# Altium schematic symbol library WR-TBL_Rising Cage Clamp.SchLib: 433 symbols (part 6 of 8)
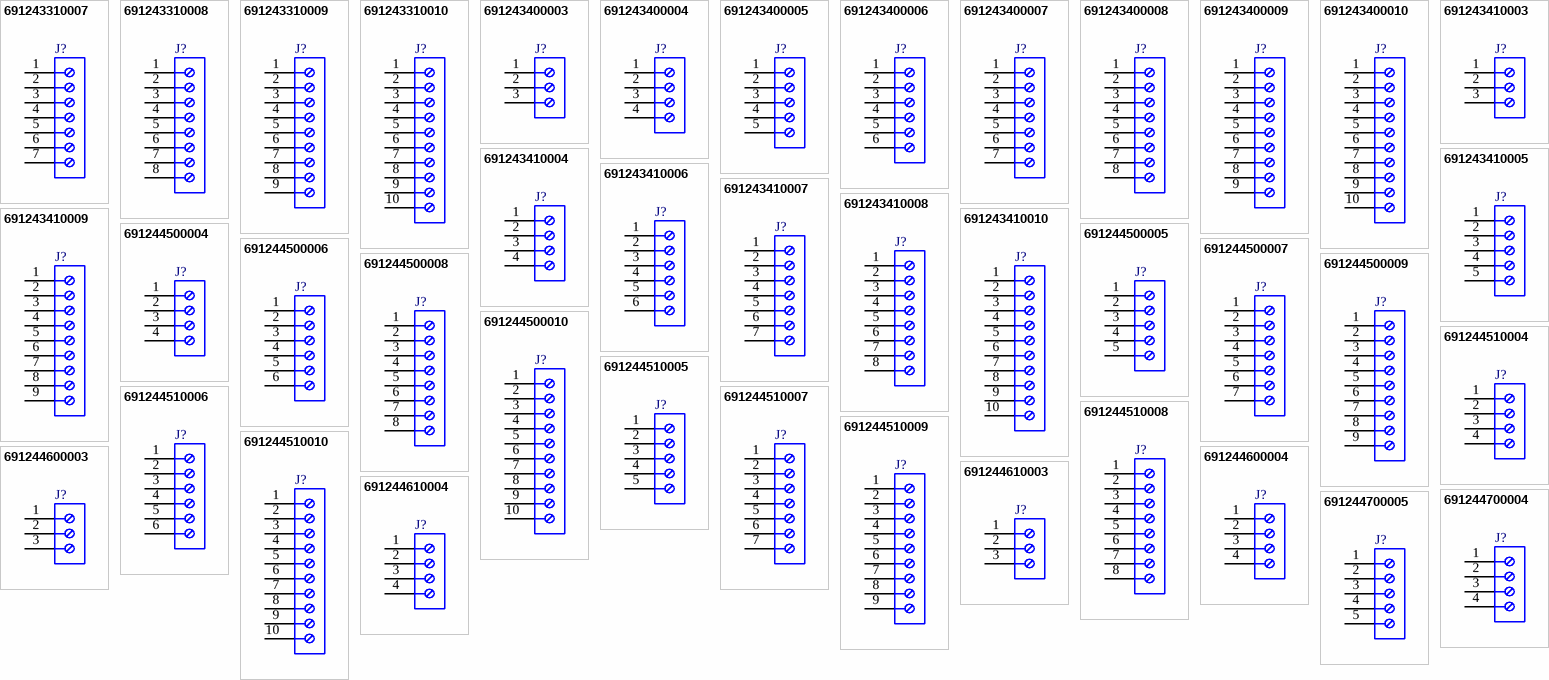
[diagram p15: symbols 691243310007 to 691244700005]

## 691244500010
designator J?  (value not drawn)
WR-TBL Series 2445 Vertical Entry Modular, THT, pitch 5.08mm, 10p; Manufacturer: Wurth Elektronik; Modularity: Yes; Rated Current: 16A; Wire Section: 12 to 30 (AWG) 3.31 to 0.0509 (mm^2); Working Voltage: 300V (AC); Manufacturer Part Number: 691244500010; Product Series: WR-TBL; ComponentLink1Description: Website Link; ComponentLink1URL: https://www.we-online.com; ComponentLink2Description: Datasheet Link; ComponentLink2URL: https://www.we-online.com/components/products/datasheet/691244500010; Mount: Through Hole; Operating Temperature Min: -30degC; Operating Temperature Max: 120degC; Packaging: Box; Application: Rising Cage Clamp; Number of Pins: 10; Number of Rows: 1; Orientation: Vertical; Lead Pitch: 5.08mm
footprint 691244500010
pins: 1, 2, 3, 4, 5, 6, 7, 8, 9, 10

## 691244510004
designator J?  (value not drawn)
WR-TBL Series 2445 Horizontal Entry Modular, THT, pitch 5.08mm, 04p; Manufacturer: Wurth Elektronik; Modularity: No; Rated Current: 16A; Wire Section: 12 to 30 (AWG) 3.31 to 0.0509 (mm^2); Working Voltage: 300V (AC); Manufacturer Part Number: 691244510004; Product Series: WR-TBL; ComponentLink1Description: Website Link; ComponentLink1URL: https://www.we-online.com; ComponentLink2Description: Datasheet Link; ComponentLink2URL: https://www.we-online.com/components/products/datasheet/691244510004; Mount: Through Hole; Operating Temperature Min: -30degC; Operating Temperature Max: 120degC; Packaging: Box; Application: Rising Cage Clamp; Number of Pins: 4; Number of Rows: 1; Orientation: Horizontal; Lead Pitch: 5.08mm
footprint 691244510004
pins: 1, 2, 3, 4

## 691244510005
designator J?  (value not drawn)
WR-TBL Series 2445 Horizontal Entry Modular, THT, pitch 5.08mm, 05p; Manufacturer: Wurth Elektronik; Modularity: No; Rated Current: 16A; Wire Section: 12 to 30 (AWG) 3.31 to 0.0509 (mm^2); Working Voltage: 300V (AC); Manufacturer Part Number: 691244510005; Product Series: WR-TBL; ComponentLink1Description: Website Link; ComponentLink1URL: https://www.we-online.com; ComponentLink2Description: Datasheet Link; ComponentLink2URL: https://www.we-online.com/components/products/datasheet/691244510005; Mount: Through Hole; Operating Temperature Min: -30degC; Operating Temperature Max: 120degC; Packaging: Box; Application: Rising Cage Clamp; Number of Pins: 5; Number of Rows: 1; Orientation: Horizontal; Lead Pitch: 5.08mm
footprint 691244510005
pins: 1, 2, 3, 4, 5

## 691244510006
designator J?  (value not drawn)
WR-TBL Series 2445 Horizontal Entry Modular, THT, pitch 5.08mm, 06p; Manufacturer: Wurth Elektronik; Modularity: No; Rated Current: 16A; Wire Section: 12 to 30 (AWG) 3.31 to 0.0509 (mm^2); Working Voltage: 300V (AC); Manufacturer Part Number: 691244510006; Product Series: WR-TBL; ComponentLink1Description: Website Link; ComponentLink1URL: https://www.we-online.com; ComponentLink2Description: Datasheet Link; ComponentLink2URL: https://www.we-online.com/components/products/datasheet/691244510006; Mount: Through Hole; Operating Temperature Min: -30degC; Operating Temperature Max: 120degC; Packaging: Box; Application: Rising Cage Clamp; Number of Pins: 6; Number of Rows: 1; Orientation: Horizontal; Lead Pitch: 5.08mm
footprint 691244510006
pins: 1, 2, 3, 4, 5, 6

## 691244510007
designator J?  (value not drawn)
WR-TBL Series 2445 Horizontal Entry Modular, THT, pitch 5.08mm, 07p; Manufacturer: Wurth Elektronik; Modularity: No; Rated Current: 16A; Wire Section: 12 to 30 (AWG) 3.31 to 0.0509 (mm^2); Working Voltage: 300V (AC); Manufacturer Part Number: 691244510007; Product Series: WR-TBL; ComponentLink1Description: Website Link; ComponentLink1URL: https://www.we-online.com; ComponentLink2Description: Datasheet Link; ComponentLink2URL: https://www.we-online.com/components/products/datasheet/691244510007; Mount: Through Hole; Operating Temperature Min: -30degC; Operating Temperature Max: 120degC; Packaging: Box; Application: Rising Cage Clamp; Number of Pins: 7; Number of Rows: 1; Orientation: Horizontal; Lead Pitch: 5.08mm
footprint 691244510007
pins: 1, 2, 3, 4, 5, 6, 7

## 691244510008
designator J?  (value not drawn)
WR-TBL Series 2445 Horizontal Entry Modular, THT, pitch 5.08mm, 08p; Manufacturer: Wurth Elektronik; Modularity: No; Rated Current: 16A; Wire Section: 12 to 30 (AWG) 3.31 to 0.0509 (mm^2); Working Voltage: 300V (AC); Manufacturer Part Number: 691244510008; Product Series: WR-TBL; ComponentLink1Description: Website Link; ComponentLink1URL: https://www.we-online.com; ComponentLink2Description: Datasheet Link; ComponentLink2URL: https://www.we-online.com/components/products/datasheet/691244510008; Mount: Through Hole; Operating Temperature Min: -30degC; Operating Temperature Max: 120degC; Packaging: Box; Application: Rising Cage Clamp; Number of Pins: 8; Number of Rows: 1; Orientation: Horizontal; Lead Pitch: 5.08mm
footprint 691244510008
pins: 1, 2, 3, 4, 5, 6, 7, 8

## 691244510009
designator J?  (value not drawn)
WR-TBL Series 2445 Horizontal Entry Modular, THT, pitch 5.08mm, 09p; Manufacturer: Wurth Elektronik; Modularity: No; Rated Current: 16A; Wire Section: 12 to 30 (AWG) 3.31 to 0.0509 (mm^2); Working Voltage: 300V (AC); Manufacturer Part Number: 691244510009; Product Series: WR-TBL; ComponentLink1Description: Website Link; ComponentLink1URL: https://www.we-online.com; ComponentLink2Description: Datasheet Link; ComponentLink2URL: https://www.we-online.com/components/products/datasheet/691244510009; Mount: Through Hole; Operating Temperature Min: -30degC; Operating Temperature Max: 120degC; Packaging: Box; Application: Rising Cage Clamp; Number of Pins: 9; Number of Rows: 1; Orientation: Horizontal; Lead Pitch: 5.08mm
footprint 691244510009
pins: 1, 2, 3, 4, 5, 6, 7, 8, 9

## 691244510010
designator J?  (value not drawn)
WR-TBL Series 2445 Horizontal Entry Modular, THT, pitch 5.08mm, 10p; Manufacturer: Wurth Elektronik; Modularity: No; Rated Current: 16A; Wire Section: 12 to 30 (AWG) 3.31 to 0.0509 (mm^2); Working Voltage: 300V (AC); Manufacturer Part Number: 691244510010; Product Series: WR-TBL; ComponentLink1Description: Website Link; ComponentLink1URL: https://www.we-online.com; ComponentLink2Description: Datasheet Link; ComponentLink2URL: https://www.we-online.com/components/products/datasheet/691244510010; Mount: Through Hole; Operating Temperature Min: -30degC; Operating Temperature Max: 120degC; Packaging: Box; Application: Rising Cage Clamp; Number of Pins: 10; Number of Rows: 1; Orientation: Horizontal; Lead Pitch: 5.08mm
footprint 691244510010
pins: 1, 2, 3, 4, 5, 6, 7, 8, 9, 10

## 691244600003
designator J?  (value not drawn)
WR-TBL Series 2446 Vertical Entry Modular, THT, pitch 10.16mm, 03p; Manufacturer: Wurth Elektronik; Modularity: No; Rated Current: 16A; Wire Section: 12 to 30 (AWG) 3.31 to 0.0509 (mm^2); Working Voltage: 300V (AC); Manufacturer Part Number: 691244600003; Product Series: WR-TBL; ComponentLink1Description: Website Link; ComponentLink1URL: https://www.we-online.com; ComponentLink2Description: Datasheet Link; ComponentLink2URL: https://www.we-online.com/components/products/datasheet/691244600003; Mount: Through Hole; Operating Temperature Min: -30degC; Operating Temperature Max: 120degC; Packaging: Box; Application: Rising Cage Clamp; Number of Pins: 3; Number of Rows: 1; Orientation: Vertical; Lead Pitch: 10.16mm
footprint 691244600003
pins: 1, 2, 3

## 691244600004
designator J?  (value not drawn)
WR-TBL Series 2446 Vertical Entry Modular, THT, pitch 10.16mm, 04p; Manufacturer: Wurth Elektronik; Modularity: No; Rated Current: 16A; Wire Section: 12 to 30 (AWG) 3.31 to 0.0509 (mm^2); Working Voltage: 300V (AC); Manufacturer Part Number: 691244600004; Product Series: WR-TBL; ComponentLink1Description: Website Link; ComponentLink1URL: https://www.we-online.com; ComponentLink2Description: Datasheet Link; ComponentLink2URL: https://www.we-online.com/components/products/datasheet/691244600004; Mount: Through Hole; Operating Temperature Min: -30degC; Operating Temperature Max: 120degC; Packaging: Box; Application: Rising Cage Clamp; Number of Pins: 4; Number of Rows: 1; Orientation: Vertical; Lead Pitch: 10.16mm
footprint 691244600004
pins: 1, 2, 3, 4

## 691244610003
designator J?  (value not drawn)
WR-TBL Series 2446 Horizontal Entry Modular, THT, pitch 10.16mm, 03p; Manufacturer: Wurth Elektronik; Modularity: No; Rated Current: 16A; Wire Section: 12 to 30 (AWG) 3.31 to 0.0509 (mm^2); Working Voltage: 300V (AC); Manufacturer Part Number: 691244610003; Product Series: WR-TBL; ComponentLink1Description: Website Link; ComponentLink1URL: https://www.we-online.com; ComponentLink2Description: Datasheet Link; ComponentLink2URL: https://www.we-online.com/components/products/datasheet/691244610003; Mount: Through Hole; Operating Temperature Min: -30degC; Operating Temperature Max: 120degC; Packaging: Box; Application: Rising Cage Clamp; Number of Pins: 3; Number of Rows: 1; Orientation: Horizontal; Lead Pitch: 10.16mm
footprint 691244610003
pins: 1, 2, 3

## 691244610004
designator J?  (value not drawn)
WR-TBL Series 2446 Horizontal Entry Modular, THT, pitch 10.16mm, 04p; Manufacturer: Wurth Elektronik; Modularity: No; Rated Current: 16A; Wire Section: 12 to 30 (AWG) 3.31 to 0.0509 (mm^2); Working Voltage: 300V (AC); Manufacturer Part Number: 691244610004; Product Series: WR-TBL; ComponentLink1Description: Website Link; ComponentLink1URL: https://www.we-online.com; ComponentLink2Description: Datasheet Link; ComponentLink2URL: https://www.we-online.com/components/products/datasheet/691244610004; Mount: Through Hole; Operating Temperature Min: -30degC; Operating Temperature Max: 120degC; Packaging: Box; Application: Rising Cage Clamp; Number of Pins: 4; Number of Rows: 1; Orientation: Horizontal; Lead Pitch: 10.16mm
footprint 691244610004
pins: 1, 2, 3, 4

## 691244700004
designator J?  (value not drawn)
WR-TBL Series 2447 Vertical Entry Modular, THT, pitch 5mm, 04p; Manufacturer: Wurth Elektronik; Modularity: Yes; Rated Current: 16A; Wire Section: 30 to 12 (AWG) 0.0509 to 3.31 (mm^2); Working Voltage: 300V (AC); Manufacturer Part Number: 691244700004; Product Series: WR-TBL; ComponentLink1Description: Website Link; ComponentLink1URL: https://www.we-online.com; ComponentLink2Description: Datasheet Link; ComponentLink2URL: https://www.we-online.com/components/products/datasheet/691244700004; Mount: Through Hole; Operating Temperature Min: -30degC; Operating Temperature Max: 120degC; Packaging: Box; Application: Rising Cage Clamp; Number of Pins: 4; Number of Rows: 1; Orientation: Vertical; Lead Pitch: 5mm
footprint 691244700004
pins: 1, 2, 3, 4

## 691244700005
designator J?  (value not drawn)
WR-TBL Series 2447 Vertical Entry Modular, THT, pitch 5mm, 05p; Manufacturer: Wurth Elektronik; Modularity: Yes; Rated Current: 16A; Wire Section: 30 to 12 (AWG) 0.0509 to 3.31 (mm^2); Working Voltage: 300V (AC); Manufacturer Part Number: 691244700005; Product Series: WR-TBL; ComponentLink1Description: Website Link; ComponentLink1URL: https://www.we-online.com; ComponentLink2Description: Datasheet Link; ComponentLink2URL: https://www.we-online.com/components/products/datasheet/691244700005; Mount: Through Hole; Operating Temperature Min: -30degC; Operating Temperature Max: 120degC; Packaging: Box; Application: Rising Cage Clamp; Number of Pins: 5; Number of Rows: 1; Orientation: Vertical; Lead Pitch: 5mm
footprint 691244700005
pins: 1, 2, 3, 4, 5

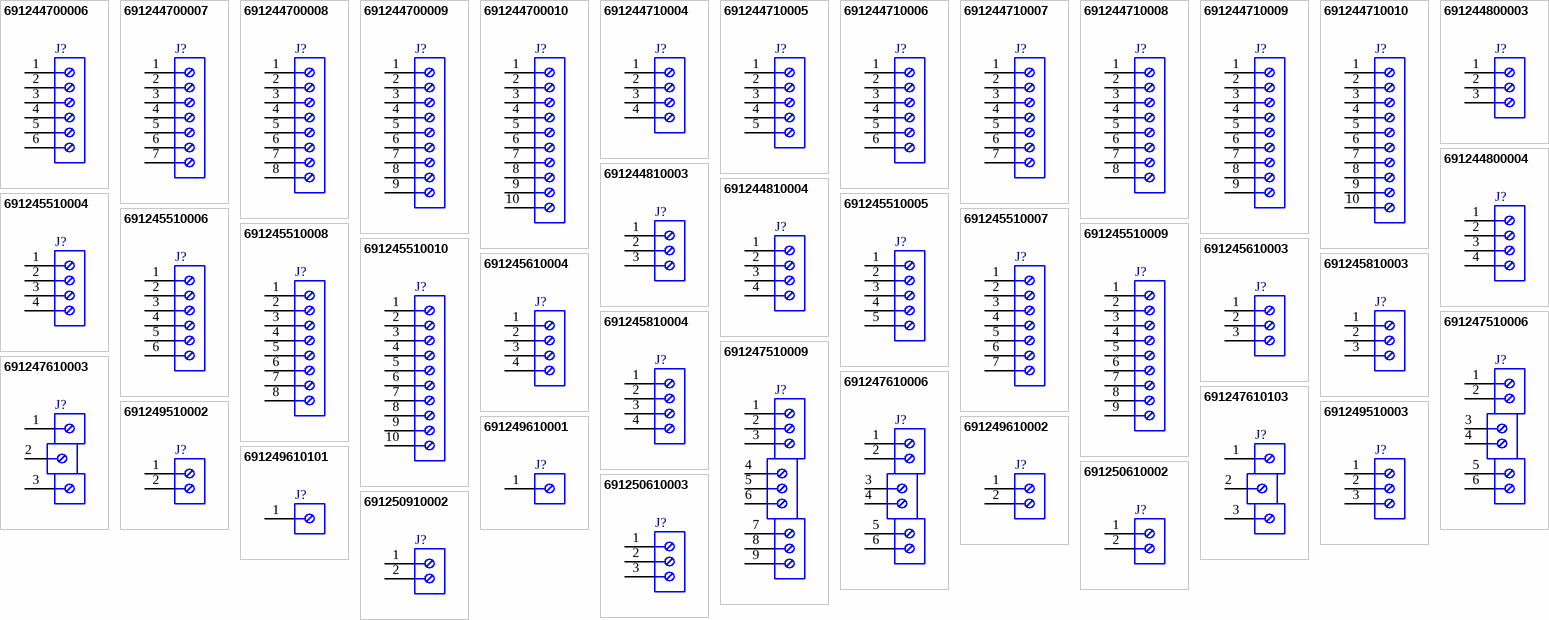
[diagram p8: symbols 691244700006 to 691250910002]

## 691244700006
designator J?  (value not drawn)
WR-TBL Series 2447 Vertical Entry Modular, THT, pitch 5mm, 06p; Manufacturer: Wurth Elektronik; Modularity: Yes; Rated Current: 16A; Wire Section: 30 to 12 (AWG) 0.0509 to 3.31 (mm^2); Working Voltage: 300V (AC); Manufacturer Part Number: 691244700006; Product Series: WR-TBL; ComponentLink1Description: Website Link; ComponentLink1URL: https://www.we-online.com; ComponentLink2Description: Datasheet Link; ComponentLink2URL: https://www.we-online.com/components/products/datasheet/691244700006; Mount: Through Hole; Operating Temperature Min: -30degC; Operating Temperature Max: 120degC; Packaging: Box; Application: Rising Cage Clamp; Number of Pins: 6; Number of Rows: 1; Orientation: Vertical; Lead Pitch: 5mm
footprint 691244700006
pins: 1, 2, 3, 4, 5, 6

## 691244700007
designator J?  (value not drawn)
WR-TBL Series 2447 Vertical Entry Modular, THT, pitch 5mm, 07p; Manufacturer: Wurth Elektronik; Modularity: Yes; Rated Current: 16A; Wire Section: 30 to 12 (AWG) 0.0509 to 3.31 (mm^2); Working Voltage: 300V (AC); Manufacturer Part Number: 691244700007; Product Series: WR-TBL; ComponentLink1Description: Website Link; ComponentLink1URL: https://www.we-online.com; ComponentLink2Description: Datasheet Link; ComponentLink2URL: https://www.we-online.com/components/products/datasheet/691244700007; Mount: Through Hole; Operating Temperature Min: -30degC; Operating Temperature Max: 120degC; Packaging: Box; Application: Rising Cage Clamp; Number of Pins: 7; Number of Rows: 1; Orientation: Vertical; Lead Pitch: 5mm
footprint 691244700007
pins: 1, 2, 3, 4, 5, 6, 7

## 691244700008
designator J?  (value not drawn)
WR-TBL Series 2447 Vertical Entry Modular, THT, pitch 5mm, 08p; Manufacturer: Wurth Elektronik; Modularity: Yes; Rated Current: 16A; Wire Section: 30 to 12 (AWG) 0.0509 to 3.31 (mm^2); Working Voltage: 300V (AC); Manufacturer Part Number: 691244700008; Product Series: WR-TBL; ComponentLink1Description: Website Link; ComponentLink1URL: https://www.we-online.com; ComponentLink2Description: Datasheet Link; ComponentLink2URL: https://www.we-online.com/components/products/datasheet/691244700008; Mount: Through Hole; Operating Temperature Min: -30degC; Operating Temperature Max: 120degC; Packaging: Box; Application: Rising Cage Clamp; Number of Pins: 8; Number of Rows: 1; Orientation: Vertical; Lead Pitch: 5mm
footprint 691244700008
pins: 1, 2, 3, 4, 5, 6, 7, 8

## 691244700009
designator J?  (value not drawn)
WR-TBL Series 2447 Vertical Entry Modular, THT, pitch 5mm, 09p; Manufacturer: Wurth Elektronik; Modularity: Yes; Rated Current: 16A; Wire Section: 30 to 12 (AWG) 0.0509 to 3.31 (mm^2); Working Voltage: 300V (AC); Manufacturer Part Number: 691244700009; Product Series: WR-TBL; ComponentLink1Description: Website Link; ComponentLink1URL: https://www.we-online.com; ComponentLink2Description: Datasheet Link; ComponentLink2URL: https://www.we-online.com/components/products/datasheet/691244700009; Mount: Through Hole; Operating Temperature Min: -30degC; Operating Temperature Max: 120degC; Packaging: Box; Application: Rising Cage Clamp; Number of Pins: 9; Number of Rows: 1; Orientation: Vertical; Lead Pitch: 5mm
footprint 691244700009
pins: 1, 2, 3, 4, 5, 6, 7, 8, 9

## 691244700010
designator J?  (value not drawn)
WR-TBL Series 2447 Vertical Entry Modular, THT, pitch 5mm, 10p; Manufacturer: Wurth Elektronik; Modularity: Yes; Rated Current: 16A; Wire Section: 30 to 12 (AWG) 0.0509 to 3.31 (mm^2); Working Voltage: 300V (AC); Manufacturer Part Number: 691244700010; Product Series: WR-TBL; ComponentLink1Description: Website Link; ComponentLink1URL: https://www.we-online.com; ComponentLink2Description: Datasheet Link; ComponentLink2URL: https://www.we-online.com/components/products/datasheet/691244700010; Mount: Through Hole; Operating Temperature Min: -30degC; Operating Temperature Max: 120degC; Packaging: Box; Application: Rising Cage Clamp; Number of Pins: 10; Number of Rows: 1; Orientation: Vertical; Lead Pitch: 5mm
footprint 691244700010
pins: 1, 2, 3, 4, 5, 6, 7, 8, 9, 10

## 691244710004
designator J?  (value not drawn)
WR-TBL Series 2447 Horizontal Entry Modular, THT, pitch 5mm, 04p; Manufacturer: Wurth Elektronik; Modularity: Yes; Rated Current: 16A; Wire Section: 30 to 12 (AWG) 0.0509 to 3.31 (mm^2); Working Voltage: 300V (AC); Manufacturer Part Number: 691244710004; Product Series: WR-TBL; ComponentLink1Description: Website Link; ComponentLink1URL: https://www.we-online.com; ComponentLink2Description: Datasheet Link; ComponentLink2URL: https://www.we-online.com/components/products/datasheet/691244710004; Mount: Through Hole; Operating Temperature Min: -30degC; Operating Temperature Max: 120degC; Packaging: Box; Application: Rising Cage Clamp; Number of Pins: 4; Number of Rows: 1; Orientation: Horizontal; Lead Pitch: 5mm
footprint 691244710004
pins: 1, 2, 3, 4

## 691244710005
designator J?  (value not drawn)
WR-TBL Series 2447 Horizontal Entry Modular, THT, pitch 5mm, 05p; Manufacturer: Wurth Elektronik; Modularity: Yes; Rated Current: 16A; Wire Section: 30 to 12 (AWG) 0.0509 to 3.31 (mm^2); Working Voltage: 300V (AC); Manufacturer Part Number: 691244710005; Product Series: WR-TBL; ComponentLink1Description: Website Link; ComponentLink1URL: https://www.we-online.com; ComponentLink2Description: Datasheet Link; ComponentLink2URL: https://www.we-online.com/components/products/datasheet/691244710005; Mount: Through Hole; Operating Temperature Min: -30degC; Operating Temperature Max: 120degC; Packaging: Box; Application: Rising Cage Clamp; Number of Pins: 5; Number of Rows: 1; Orientation: Horizontal; Lead Pitch: 5mm
footprint 691244710005
pins: 1, 2, 3, 4, 5

## 691244710006
designator J?  (value not drawn)
WR-TBL Series 2447 Horizontal Entry Modular, THT, pitch 5mm, 06p; Manufacturer: Wurth Elektronik; Modularity: Yes; Rated Current: 16A; Wire Section: 30 to 12 (AWG) 0.0509 to 3.31 (mm^2); Working Voltage: 300V (AC); Manufacturer Part Number: 691244710006; Product Series: WR-TBL; ComponentLink1Description: Website Link; ComponentLink1URL: https://www.we-online.com; ComponentLink2Description: Datasheet Link; ComponentLink2URL: https://www.we-online.com/components/products/datasheet/691244710006; Mount: Through Hole; Operating Temperature Min: -30degC; Operating Temperature Max: 120degC; Packaging: Box; Application: Rising Cage Clamp; Number of Pins: 6; Number of Rows: 1; Orientation: Horizontal; Lead Pitch: 5mm
footprint 691244710006
pins: 1, 2, 3, 4, 5, 6

## 691244710007
designator J?  (value not drawn)
WR-TBL Series 2447 Horizontal Entry Modular, THT, pitch 5mm, 07p; Manufacturer: Wurth Elektronik; Modularity: Yes; Rated Current: 16A; Wire Section: 30 to 12 (AWG) 0.0509 to 3.31 (mm^2); Working Voltage: 300V (AC); Manufacturer Part Number: 691244710007; Product Series: WR-TBL; ComponentLink1Description: Website Link; ComponentLink1URL: https://www.we-online.com; ComponentLink2Description: Datasheet Link; ComponentLink2URL: https://www.we-online.com/components/products/datasheet/691244710007; Mount: Through Hole; Operating Temperature Min: -30degC; Operating Temperature Max: 120degC; Packaging: Box; Application: Rising Cage Clamp; Number of Pins: 7; Number of Rows: 1; Orientation: Horizontal; Lead Pitch: 5mm
footprint 691244710007
pins: 1, 2, 3, 4, 5, 6, 7

## 691244710008
designator J?  (value not drawn)
WR-TBL Series 2447 Horizontal Entry Modular, THT, pitch 5mm, 08p; Manufacturer: Wurth Elektronik; Modularity: Yes; Rated Current: 16A; Wire Section: 30 to 12 (AWG) 0.0509 to 3.31 (mm^2); Working Voltage: 300V (AC); Manufacturer Part Number: 691244710008; Product Series: WR-TBL; ComponentLink1Description: Website Link; ComponentLink1URL: https://www.we-online.com; ComponentLink2Description: Datasheet Link; ComponentLink2URL: https://www.we-online.com/components/products/datasheet/691244710008; Mount: Through Hole; Operating Temperature Min: -30degC; Operating Temperature Max: 120degC; Packaging: Box; Application: Rising Cage Clamp; Number of Pins: 8; Number of Rows: 1; Orientation: Horizontal; Lead Pitch: 5mm
footprint 691244710008
pins: 1, 2, 3, 4, 5, 6, 7, 8

## 691244710009
designator J?  (value not drawn)
WR-TBL Series 2447 Horizontal Entry Modular, THT, pitch 5mm, 09p; Manufacturer: Wurth Elektronik; Modularity: Yes; Rated Current: 16A; Wire Section: 30 to 12 (AWG) 0.0509 to 3.31 (mm^2); Working Voltage: 300V (AC); Manufacturer Part Number: 691244710009; Product Series: WR-TBL; ComponentLink1Description: Website Link; ComponentLink1URL: https://www.we-online.com; ComponentLink2Description: Datasheet Link; ComponentLink2URL: https://www.we-online.com/components/products/datasheet/691244710009; Mount: Through Hole; Operating Temperature Min: -30degC; Operating Temperature Max: 120degC; Packaging: Box; Application: Rising Cage Clamp; Number of Pins: 9; Number of Rows: 1; Orientation: Horizontal; Lead Pitch: 5mm
footprint 691244710009
pins: 1, 2, 3, 4, 5, 6, 7, 8, 9

## 691244710010
designator J?  (value not drawn)
WR-TBL Series 2447 Horizontal Entry Modular, THT, pitch 5mm, 10p; Manufacturer: Wurth Elektronik; Modularity: Yes; Rated Current: 16A; Wire Section: 30 to 12 (AWG) 0.0509 to 3.31 (mm^2); Working Voltage: 300V (AC); Manufacturer Part Number: 691244710010; Product Series: WR-TBL; ComponentLink1Description: Website Link; ComponentLink1URL: https://www.we-online.com; ComponentLink2Description: Datasheet Link; ComponentLink2URL: https://www.we-online.com/components/products/datasheet/691244710010; Mount: Through Hole; Operating Temperature Min: -30degC; Operating Temperature Max: 120degC; Packaging: Box; Application: Rising Cage Clamp; Number of Pins: 10; Number of Rows: 1; Orientation: Horizontal; Lead Pitch: 5mm
footprint 691244710010
pins: 1, 2, 3, 4, 5, 6, 7, 8, 9, 10

## 691244800003
designator J?  (value not drawn)
WR-TBL Series 2448 Vertical Entry Modular, THT, pitch 10mm, 03p; Manufacturer: Wurth Elektronik; Modularity: No; Rated Current: 16A; Wire Section: 12 to 30 (AWG) 3.31 to 0.0509 (mm^2); Working Voltage: 300V (AC); Manufacturer Part Number: 691244800003; Product Series: WR-TBL; ComponentLink1Description: Website Link; ComponentLink1URL: https://www.we-online.com; ComponentLink2Description: Datasheet Link; ComponentLink2URL: https://www.we-online.com/components/products/datasheet/691244800003; Mount: Through Hole; Operating Temperature Min: -30degC; Operating Temperature Max: 120degC; Packaging: Box; Application: Rising Cage Clamp; Number of Pins: 3; Number of Rows: 1; Orientation: Vertical; Lead Pitch: 10mm
footprint 691244800003
pins: 1, 2, 3

## 691244800004
designator J?  (value not drawn)
WR-TBL Series 2448 Vertical Entry Modular, THT, pitch 10mm, 04p; Manufacturer: Wurth Elektronik; Modularity: No; Rated Current: 16A; Wire Section: 12 to 30 (AWG) 3.31 to 0.0509 (mm^2); Working Voltage: 300V (AC); Manufacturer Part Number: 691244800004; Product Series: WR-TBL; ComponentLink1Description: Website Link; ComponentLink1URL: https://www.we-online.com; ComponentLink2Description: Datasheet Link; ComponentLink2URL: https://www.we-online.com/components/products/datasheet/691244800004; Mount: Through Hole; Operating Temperature Min: -30degC; Operating Temperature Max: 120degC; Packaging: Box; Application: Rising Cage Clamp; Number of Pins: 4; Number of Rows: 1; Orientation: Vertical; Lead Pitch: 10mm
footprint 691244800004
pins: 1, 2, 3, 4

## 691244810003
designator J?  (value not drawn)
WR-TBL Series 2448 Horizontal Entry Modular, THT, pitch 10mm, 03p; Manufacturer: Wurth Elektronik; Modularity: No; Rated Current: 16A; Wire Section: 12 to 30 (AWG) 3.31 to 0.0509 (mm^2); Working Voltage: 300V (AC); Manufacturer Part Number: 691244810003; Product Series: WR-TBL; ComponentLink1Description: Website Link; ComponentLink1URL: https://www.we-online.com; ComponentLink2Description: Datasheet Link; ComponentLink2URL: https://www.we-online.com/components/products/datasheet/691244810003; Mount: Through Hole; Operating Temperature Min: -30degC; Operating Temperature Max: 120degC; Packaging: Box; Application: Rising Cage Clamp; Number of Pins: 3; Number of Rows: 1; Orientation: Horizontal; Lead Pitch: 10mm
footprint 691244810003
pins: 1, 2, 3

## 691244810004
designator J?  (value not drawn)
WR-TBL Series 2448 Horizontal Entry Modular, THT, pitch 10mm, 04p; Manufacturer: Wurth Elektronik; Modularity: No; Rated Current: 16A; Wire Section: 12 to 30 (AWG) 3.31 to 0.0509 (mm^2); Working Voltage: 300V (AC); Manufacturer Part Number: 691244810004; Product Series: WR-TBL; ComponentLink1Description: Website Link; ComponentLink1URL: https://www.we-online.com; ComponentLink2Description: Datasheet Link; ComponentLink2URL: https://www.we-online.com/components/products/datasheet/691244810004; Mount: Through Hole; Operating Temperature Min: -30degC; Operating Temperature Max: 120degC; Packaging: Box; Application: Rising Cage Clamp; Number of Pins: 4; Number of Rows: 1; Orientation: Horizontal; Lead Pitch: 10mm
footprint 691244810004
pins: 1, 2, 3, 4

## 691245510004
designator J?  (value not drawn)
WR-TBL Series 2455 Horizontal Cable Entry, THT, pitch 5.08mm, 04p; Manufacturer: Wurth Elektronik; Modularity: No; Rated Current: 16A; Wire Section: 12 to 30 (AWG) 0.05 to 3.31 (mm^2); Working Voltage: 300V (AC); Manufacturer Part Number: 691245510004; Product Series: WR-TBL; ComponentLink1Description: Website Link; ComponentLink1URL: https://www.we-online.com; ComponentLink2Description: Datasheet Link; ComponentLink2URL: https://www.we-online.com/components/products/datasheet/691245510004; Mount: Through Hole; Operating Temperature Min: -30degC; Operating Temperature Max: 120degC; Packaging: Box; Application: Rising Cage Clamp; Number of Pins: 4; Number of Rows: 1; Orientation: Horizontal; Lead Pitch: 5.08mm
footprint 691245510004
pins: 1, 2, 3, 4

## 691245510005
designator J?  (value not drawn)
WR-TBL Series 2455 Horizontal Cable Entry, THT, pitch 5.08mm, 05p; Manufacturer: Wurth Elektronik; Modularity: No; Rated Current: 16A; Wire Section: 12 to 30 (AWG) 0.05 to 3.31 (mm^2); Working Voltage: 300V (AC); Manufacturer Part Number: 691245510005; Product Series: WR-TBL; ComponentLink1Description: Website Link; ComponentLink1URL: https://www.we-online.com; ComponentLink2Description: Datasheet Link; ComponentLink2URL: https://www.we-online.com/components/products/datasheet/691245510005; Mount: Through Hole; Operating Temperature Min: -30degC; Operating Temperature Max: 120degC; Packaging: Box; Application: Rising Cage Clamp; Number of Pins: 5; Number of Rows: 1; Orientation: Horizontal; Lead Pitch: 5.08mm
footprint 691245510005
pins: 1, 2, 3, 4, 5

## 691245510006
designator J?  (value not drawn)
WR-TBL Series 2455 Horizontal Cable Entry, THT, pitch 5.08mm, 06p; Manufacturer: Wurth Elektronik; Modularity: No; Rated Current: 16A; Wire Section: 12 to 30 (AWG) 0.05 to 3.31 (mm^2); Working Voltage: 300V (AC); Manufacturer Part Number: 691245510006; Product Series: WR-TBL; ComponentLink1Description: Website Link; ComponentLink1URL: https://www.we-online.com; ComponentLink2Description: Datasheet Link; ComponentLink2URL: https://www.we-online.com/components/products/datasheet/691245510006; Mount: Through Hole; Operating Temperature Min: -30degC; Operating Temperature Max: 120degC; Packaging: Box; Application: Rising Cage Clamp; Number of Pins: 6; Number of Rows: 1; Orientation: Horizontal; Lead Pitch: 5.08mm
footprint 691245510006
pins: 1, 2, 3, 4, 5, 6

## 691245510007
designator J?  (value not drawn)
WR-TBL Series 2455 Horizontal Cable Entry, THT, pitch 5.08mm, 07p; Manufacturer: Wurth Elektronik; Modularity: No; Rated Current: 16A; Wire Section: 12 to 30 (AWG) 0.05 to 3.31 (mm^2); Working Voltage: 300V (AC); Manufacturer Part Number: 691245510007; Product Series: WR-TBL; ComponentLink1Description: Website Link; ComponentLink1URL: https://www.we-online.com; ComponentLink2Description: Datasheet Link; ComponentLink2URL: https://www.we-online.com/components/products/datasheet/691245510007; Mount: Through Hole; Operating Temperature Min: -30degC; Operating Temperature Max: 120degC; Packaging: Box; Application: Rising Cage Clamp; Number of Pins: 7; Number of Rows: 1; Orientation: Horizontal; Lead Pitch: 5.08mm
footprint 691245510007
pins: 1, 2, 3, 4, 5, 6, 7

## 691245510008
designator J?  (value not drawn)
WR-TBL Series 2455 Horizontal Cable Entry, THT, pitch 5.08mm, 08p; Manufacturer: Wurth Elektronik; Modularity: No; Rated Current: 16A; Wire Section: 12 to 30 (AWG) 0.05 to 3.31 (mm^2); Working Voltage: 300V (AC); Manufacturer Part Number: 691245510008; Product Series: WR-TBL; ComponentLink1Description: Website Link; ComponentLink1URL: https://www.we-online.com; ComponentLink2Description: Datasheet Link; ComponentLink2URL: https://www.we-online.com/components/products/datasheet/691245510008; Mount: Through Hole; Operating Temperature Min: -30degC; Operating Temperature Max: 120degC; Packaging: Box; Application: Rising Cage Clamp; Number of Pins: 8; Number of Rows: 1; Orientation: Horizontal; Lead Pitch: 5.08mm
footprint 691245510008
pins: 1, 2, 3, 4, 5, 6, 7, 8

## 691245510009
designator J?  (value not drawn)
WR-TBL Series 2455 Horizontal Cable Entry, THT, pitch 5.08mm, 09p; Manufacturer: Wurth Elektronik; Modularity: No; Rated Current: 16A; Wire Section: 12 to 30 (AWG) 0.05 to 3.31 (mm^2); Working Voltage: 300V (AC); Manufacturer Part Number: 691245510009; Product Series: WR-TBL; ComponentLink1Description: Website Link; ComponentLink1URL: https://www.we-online.com; ComponentLink2Description: Datasheet Link; ComponentLink2URL: https://www.we-online.com/components/products/datasheet/691245510009; Mount: Through Hole; Operating Temperature Min: -30degC; Operating Temperature Max: 120degC; Packaging: Box; Application: Rising Cage Clamp; Number of Pins: 9; Number of Rows: 1; Orientation: Horizontal; Lead Pitch: 5.08mm
footprint 691245510009
pins: 1, 2, 3, 4, 5, 6, 7, 8, 9

## 691245510010
designator J?  (value not drawn)
WR-TBL Series 2455 Horizontal Cable Entry, THT, pitch 5.08mm, 10p; Manufacturer: Wurth Elektronik; Modularity: No; Rated Current: 16A; Wire Section: 12 to 30 (AWG) 0.05 to 3.31 (mm^2); Working Voltage: 300V (AC); Manufacturer Part Number: 691245510010; Product Series: WR-TBL; ComponentLink1Description: Website Link; ComponentLink1URL: https://www.we-online.com; ComponentLink2Description: Datasheet Link; ComponentLink2URL: https://www.we-online.com/components/products/datasheet/691245510010; Mount: Through Hole; Operating Temperature Min: -30degC; Operating Temperature Max: 120degC; Packaging: Box; Application: Rising Cage Clamp; Number of Pins: 10; Number of Rows: 1; Orientation: Horizontal; Lead Pitch: 5.08mm
footprint 691245510010
pins: 1, 2, 3, 4, 5, 6, 7, 8, 9, 10

## 691245610003
designator J?  (value not drawn)
WR-TBL Series 2456 Horizontal Cable Entry, THT, pitch 10.16mm, 03p; Manufacturer: Wurth Elektronik; Modularity: No; Rated Current: 16A; Wire Section: 12 to 30 (AWG) 3.31 to 0.05 (mm^2); Working Voltage: 300V (AC); Manufacturer Part Number: 691245610003; Product Series: WR-TBL; ComponentLink1Description: Website Link; ComponentLink1URL: https://www.we-online.com; ComponentLink2Description: Datasheet Link; ComponentLink2URL: https://www.we-online.com/components/products/datasheet/691245610003; Mount: Through Hole; Operating Temperature Min: -30degC; Operating Temperature Max: 120degC; Packaging: Box; Application: Rising Cage Clamp; Number of Pins: 3; Number of Rows: 1; Orientation: Horizontal; Lead Pitch: 10.16mm
footprint 691245610003
pins: 1, 2, 3

## 691245610004
designator J?  (value not drawn)
WR-TBL Series 2456 Horizontal Cable Entry, THT, pitch 10.16mm, 04p; Manufacturer: Wurth Elektronik; Modularity: No; Rated Current: 16A; Wire Section: 12 to 30 (AWG) 3.31 to 0.05 (mm^2); Working Voltage: 300V (AC); Manufacturer Part Number: 691245610004; Product Series: WR-TBL; ComponentLink1Description: Website Link; ComponentLink1URL: https://www.we-online.com; ComponentLink2Description: Datasheet Link; ComponentLink2URL: https://www.we-online.com/components/products/datasheet/691245610004; Mount: Through Hole; Operating Temperature Min: -30degC; Operating Temperature Max: 120degC; Packaging: Box; Application: Rising Cage Clamp; Number of Pins: 4; Number of Rows: 1; Orientation: Horizontal; Lead Pitch: 10.16mm
footprint 691245610004
pins: 1, 2, 3, 4

## 691245810003
designator J?  (value not drawn)
WR-TBL Series 2458 Horizontal Entry, THT, pitch 10mm, 03p; Manufacturer: Wurth Elektronik; Modularity: No; Rated Current: 16A; Wire Section: 12 to 30 (AWG) 3.31 to 0.0509 (mm^2); Working Voltage: 300V (AC); Manufacturer Part Number: 691245810003; Product Series: WR-TBL; ComponentLink1Description: Website Link; ComponentLink1URL: https://www.we-online.com; ComponentLink2Description: Datasheet Link; ComponentLink2URL: https://www.we-online.com/components/products/datasheet/691245810003; Mount: Through Hole; Operating Temperature Min: -30degC; Operating Temperature Max: 120degC; Packaging: Box; Application: Rising Cage Clamp; Number of Pins: 3; Number of Rows: 1; Orientation: Horizontal; Lead Pitch: 10mm
footprint 691245810003
pins: 1, 2, 3

## 691245810004
designator J?  (value not drawn)
WR-TBL Series 2458 Horizontal Entry, THT, pitch 10mm, 04p; Manufacturer: Wurth Elektronik; Modularity: No; Rated Current: 16A; Wire Section: 12 to 30 (AWG) 3.31 to 0.0509 (mm^2); Working Voltage: 300V (AC); Manufacturer Part Number: 691245810004; Product Series: WR-TBL; ComponentLink1Description: Website Link; ComponentLink1URL: https://www.we-online.com; ComponentLink2Description: Datasheet Link; ComponentLink2URL: https://www.we-online.com/components/products/datasheet/691245810004; Mount: Through Hole; Operating Temperature Min: -30degC; Operating Temperature Max: 120degC; Packaging: Box; Application: Rising Cage Clamp; Number of Pins: 4; Number of Rows: 1; Orientation: Horizontal; Lead Pitch: 10mm
footprint 691245810004
pins: 1, 2, 3, 4

## 691247510006
designator J?  (value not drawn)
WR-TBL Series 2475 Tripel Level Horizontal Entry, THT, pitch 5.08mm, 06p; Manufacturer: Wurth Elektronik; Modularity: Yes; Rated Current: 20A; Wire Section: 12 to 30 (AWG) 3.31 to 0.05 (mm^2); Working Voltage: 300V (AC); Manufacturer Part Number: 691247510006; Product Series: WR-TBL; ComponentLink1Description: Website Link; ComponentLink1URL: https://www.we-online.com; ComponentLink2Description: Datasheet Link; ComponentLink2URL: https://www.we-online.com/components/products/datasheet/691247510006; Mount: Through Hole; Operating Temperature Min: -30degC; Operating Temperature Max: 120degC; Packaging: Box; Application: Rising Cage Clamp; Number of Pins: 6; Number of Rows: 3; Orientation: Tripel Level Horizontal; Lead Pitch: 5.08mm
footprint 691247510006
pins: 1, 2, 3, 4, 5, 6

## 691247510009
designator J?  (value not drawn)
WR-TBL Series 2475 Tripel Level Horizontal Entry, THT, pitch 5.08mm, 09p; Manufacturer: Wurth Elektronik; Modularity: Yes; Rated Current: 20A; Wire Section: 12 to 30 (AWG) 3.31 to 0.05 (mm^2); Working Voltage: 300V (AC); Manufacturer Part Number: 691247510009; Product Series: WR-TBL; ComponentLink1Description: Website Link; ComponentLink1URL: https://www.we-online.com; ComponentLink2Description: Datasheet Link; ComponentLink2URL: https://www.we-online.com/components/products/datasheet/691247510009; Mount: Through Hole; Operating Temperature Min: -30degC; Operating Temperature Max: 120degC; Packaging: Box; Application: Rising Cage Clamp; Number of Pins: 9; Number of Rows: 3; Orientation: Tripel Level Horizontal; Lead Pitch: 5.08mm
footprint 691247510009
pins: 1, 2, 3, 4, 5, 6, 7, 8, 9

## 691247610003
designator J?  (value not drawn)
WR-TBL Series 2476 Tripel Level Horizontal Entry, THT, pitch 10.16mm, 03p; Manufacturer: Wurth Elektronik; Modularity: Yes; Rated Current: 20A; Wire Section: 12 to 30 (AWG) 3.31 to 0.05 (mm^2); Working Voltage: 300V (AC); Manufacturer Part Number: 691247610003; Product Series: WR-TBL; ComponentLink1Description: Website Link; ComponentLink1URL: https://www.we-online.com; ComponentLink2Description: Datasheet Link; ComponentLink2URL: https://www.we-online.com/components/products/datasheet/691247610003; Mount: Through Hole; Operating Temperature Min: -30degC; Operating Temperature Max: 120degC; Packaging: Box; Application: Rising Cage Clamp; Number of Pins: 3; Number of Rows: 3; Orientation: Tripel Level Horizontal; Lead Pitch: 10.16mm
footprint 691247610003
pins: 1, 2, 3

## 691247610006
designator J?  (value not drawn)
WR-TBL Series 2476 Tripel Level Horizontal Entry, THT, pitch 10.16mm, 06p; Manufacturer: Wurth Elektronik; Modularity: Yes; Rated Current: 20A; Wire Section: 12 to 30 (AWG) 3.31 to 0.05 (mm^2); Working Voltage: 300V (AC); Manufacturer Part Number: 691247610006; Product Series: WR-TBL; ComponentLink1Description: Website Link; ComponentLink1URL: https://www.we-online.com; ComponentLink2Description: Datasheet Link; ComponentLink2URL: https://www.we-online.com/components/products/datasheet/691247610006; Mount: Through Hole; Operating Temperature Min: -30degC; Operating Temperature Max: 120degC; Packaging: Box; Application: Rising Cage Clamp; Number of Pins: 6; Number of Rows: 3; Orientation: Tripel Level Horizontal; Lead Pitch: 10.16mm
footprint 691247610006
pins: 1, 2, 3, 4, 5, 6

## 691247610103
designator J?  (value not drawn)
WR-TBL Series 2476 Tripel Level Horizontal Entry, THT, pitch 10.16mm, 03p; Manufacturer: Wurth Elektronik; Modularity: Yes; Rated Current: 20A; Wire Section: 12 to 30 (AWG) 3.31 to 0.05 (mm^2); Working Voltage: 300V (AC); Manufacturer Part Number: 691247610103; Product Series: WR-TBL; ComponentLink1Description: Website Link; ComponentLink1URL: https://www.we-online.com; ComponentLink2Description: Datasheet Link; ComponentLink2URL: https://www.we-online.com/components/products/datasheet/691247610103; Mount: Through Hole; Operating Temperature Min: -30degC; Operating Temperature Max: 120degC; Packaging: Box; Application: Rising Cage Clamp; Number of Pins: 3; Number of Rows: 3; Orientation: Tripel Level Horizontal; Lead Pitch: 10.16mm
footprint 691247610103
pins: 1, 2, 3

## 691249510002
designator J?  (value not drawn)
WR-TBL Series 2495 Horizontal Entry, THT, pitch 5.08mm, 02p; Manufacturer: Wurth Elektronik; Modularity: Yes; Rated Current: 20A; Wire Section: 12 to 30 (AWG) 3.31 to 0.05 (mm^2); Working Voltage: 300V (AC); Manufacturer Part Number: 691249510002; Product Series: WR-TBL; ComponentLink1Description: Website Link; ComponentLink1URL: https://www.we-online.com; ComponentLink2Description: Datasheet Link; ComponentLink2URL: https://www.we-online.com/components/products/datasheet/691249510002; Mount: Through Hole; Operating Temperature Min: -30degC; Operating Temperature Max: 120degC; Packaging: Box; Application: Rising Cage Clamp; Number of Pins: 2; Number of Rows: 1; Orientation: Horizontal; Lead Pitch: 5.08mm
footprint 691249510002
pins: 1, 2

## 691249510003
designator J?  (value not drawn)
WR-TBL Series 2495 Horizontal Entry, THT, pitch 5.08mm, 03p; Manufacturer: Wurth Elektronik; Modularity: Yes; Rated Current: 20A; Wire Section: 12 to 30 (AWG) 3.31 to 0.05 (mm^2); Working Voltage: 300V (AC); Manufacturer Part Number: 691249510003; Product Series: WR-TBL; ComponentLink1Description: Website Link; ComponentLink1URL: https://www.we-online.com; ComponentLink2Description: Datasheet Link; ComponentLink2URL: https://www.we-online.com/components/products/datasheet/691249510003; Mount: Through Hole; Operating Temperature Min: -30degC; Operating Temperature Max: 120degC; Packaging: Box; Application: Rising Cage Clamp; Number of Pins: 3; Number of Rows: 1; Orientation: Horizontal; Lead Pitch: 5.08mm
footprint 691249510003
pins: 1, 2, 3

## 691249610001
designator J?  (value not drawn)
WR-TBL Series 2496 Horizontal Entry, THT, pitch 10.16mm, 01p; Manufacturer: Wurth Elektronik; Modularity: Yes; Rated Current: 20A; Wire Section: 12 to 30 (AWG) 3.31 to 0.05 (mm^2); Working Voltage: 300V (AC); Manufacturer Part Number: 691249610001; Product Series: WR-TBL; ComponentLink1Description: Website Link; ComponentLink1URL: https://www.we-online.com; ComponentLink2Description: Datasheet Link; ComponentLink2URL: https://www.we-online.com/components/products/datasheet/691249610001; Mount: Through Hole; Operating Temperature Min: -30degC; Operating Temperature Max: 120degC; Packaging: Box; Application: Rising Cage Clamp; Number of Pins: 1; Number of Rows: 1; Orientation: Horizontal; Lead Pitch: 10.16mm
footprint 691249610001
pins: 1

## 691249610002
designator J?  (value not drawn)
WR-TBL Series 2496 Horizontal Entry, THT, pitch 10.16mm, 02p; Manufacturer: Wurth Elektronik; Modularity: Yes; Rated Current: 20A; Wire Section: 12 to 30 (AWG) 3.31 to 0.05 (mm^2); Working Voltage: 300V (AC); Manufacturer Part Number: 691249610002; Product Series: WR-TBL; ComponentLink1Description: Website Link; ComponentLink1URL: https://www.we-online.com; ComponentLink2Description: Datasheet Link; ComponentLink2URL: https://www.we-online.com/components/products/datasheet/691249610002; Mount: Through Hole; Operating Temperature Min: -30degC; Operating Temperature Max: 120degC; Packaging: Box; Application: Rising Cage Clamp; Number of Pins: 2; Number of Rows: 1; Orientation: Horizontal; Lead Pitch: 10.16mm
footprint 691249610002
pins: 1, 2

## 691249610101
designator J?  (value not drawn)
WR-TBL Series 2496 Horizontal Entry, THT, pitch 10.16mm, 01p; Manufacturer: Wurth Elektronik; Modularity: Yes; Rated Current: 20A; Wire Section: 12 to 30 (AWG) 3.31 to 0.05 (mm^2); Working Voltage: 300V (AC); Manufacturer Part Number: 691249610101; Product Series: WR-TBL; ComponentLink1Description: Website Link; ComponentLink1URL: https://www.we-online.com; ComponentLink2Description: Datasheet Link; ComponentLink2URL: https://www.we-online.com/components/products/datasheet/691249610101; Mount: Through Hole; Operating Temperature Min: -30degC; Operating Temperature Max: 120degC; Packaging: Box; Application: Rising Cage Clamp; Number of Pins: 1; Number of Rows: 1; Orientation: Horizontal; Lead Pitch: 10.16mm
footprint 691249610101
pins: 1

## 691250610002
designator J?  (value not drawn)
WR-TBL Series 2506 Horizontal Entry Modular, THT, pitch 6.35mm, 02p; Manufacturer: Wurth Elektronik; Modularity: Yes; Rated Current: 24A; Wire Section: 10 to 30 (AWG) 5.26 to 0.0509 (mm^2); Working Voltage: 300V (AC); Manufacturer Part Number: 691250610002; Product Series: WR-TBL; ComponentLink1Description: Website Link; ComponentLink1URL: https://www.we-online.com; ComponentLink2Description: Datasheet Link; ComponentLink2URL: https://www.we-online.com/components/products/datasheet/691250610002; Mount: Through Hole; Operating Temperature Min: -30degC; Operating Temperature Max: 120degC; Packaging: Box; Application: Rising Cage Clamp; Number of Pins: 2; Number of Rows: 1; Orientation: Horizontal; Lead Pitch: 6.35mm
footprint 691250610002
pins: 1, 2

## 691250610003
designator J?  (value not drawn)
WR-TBL Series 2506 Horizontal Entry Modular, THT, pitch 6.35mm, 03p; Manufacturer: Wurth Elektronik; Modularity: Yes; Rated Current: 24A; Wire Section: 10 to 30 (AWG) 5.26 to 0.0509 (mm^2); Working Voltage: 300V (AC); Manufacturer Part Number: 691250610003; Product Series: WR-TBL; ComponentLink1Description: Website Link; ComponentLink1URL: https://www.we-online.com; ComponentLink2Description: Datasheet Link; ComponentLink2URL: https://www.we-online.com/components/products/datasheet/691250610003; Mount: Through Hole; Operating Temperature Min: -30degC; Operating Temperature Max: 120degC; Packaging: Box; Application: Rising Cage Clamp; Number of Pins: 3; Number of Rows: 1; Orientation: Horizontal; Lead Pitch: 6.35mm
footprint 691250610003
pins: 1, 2, 3

## 691250910002
designator J?  (value not drawn)
WR-TBL Series 2509 Horizontal Entry Modular, THT, pitch 9.52mm, 02p; Manufacturer: Wurth Elektronik; Modularity: Yes; Rated Current: 24A; Wire Section: 10 to 30 (AWG) 5.26 to 0.0509 (mm^2); Working Voltage: 300V (AC); Manufacturer Part Number: 691250910002; Product Series: WR-TBL; ComponentLink1Description: Website Link; ComponentLink1URL: https://www.we-online.com; ComponentLink2Description: Datasheet Link; ComponentLink2URL: https://www.we-online.com/components/products/datasheet/691250910002; Mount: Through Hole; Operating Temperature Min: -30degC; Operating Temperature Max: 120degC; Packaging: Box; Application: Rising Cage Clamp; Number of Pins: 2; Number of Rows: 1; Orientation: Horizontal; Lead Pitch: 9.52mm
footprint 691250910002
pins: 1, 2

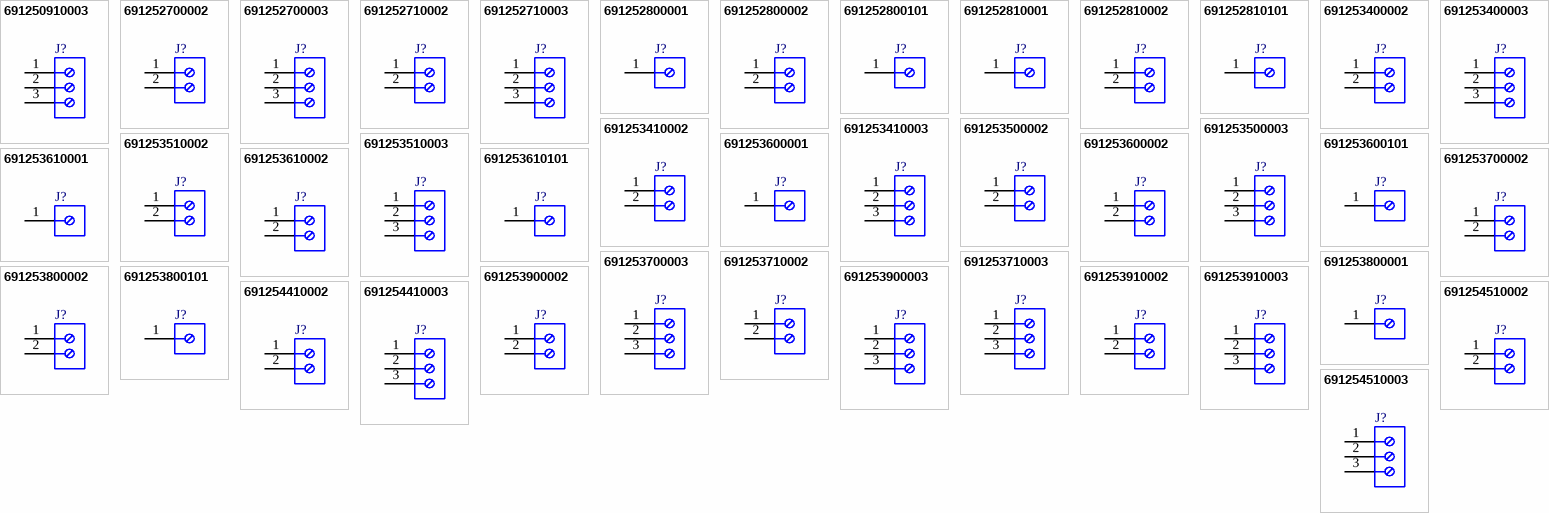
[diagram p9: symbols 691250910003 to 691254510003]

## 691250910003
designator J?  (value not drawn)
WR-TBL Series 2509 Horizontal Entry Modular, THT, pitch 9.52mm, 03p; Manufacturer: Wurth Elektronik; Modularity: Yes; Rated Current: 24A; Wire Section: 10 to 30 (AWG) 5.26 to 0.0509 (mm^2); Working Voltage: 300V (AC); Manufacturer Part Number: 691250910003; Product Series: WR-TBL; ComponentLink1Description: Website Link; ComponentLink1URL: https://www.we-online.com; ComponentLink2Description: Datasheet Link; ComponentLink2URL: https://www.we-online.com/components/products/datasheet/691250910003; Mount: Through Hole; Operating Temperature Min: -30degC; Operating Temperature Max: 120degC; Packaging: Box; Application: Rising Cage Clamp; Number of Pins: 3; Number of Rows: 1; Orientation: Horizontal; Lead Pitch: 9.52mm
footprint 691250910003
pins: 1, 2, 3

## 691252700002
designator J?  (value not drawn)
WR-TBL Series 2527 Vertical Entry Modular, THT, pitch 5mm, 02p; Manufacturer: Wurth Elektronik; Modularity: Yes; Rated Current: 16A; Wire Section: 12 to 30 (AWG) 3.31 to 0.0509 (mm^2); Working Voltage: 300V (AC); Manufacturer Part Number: 691252700002; Product Series: WR-TBL; ComponentLink1Description: Website Link; ComponentLink1URL: https://www.we-online.com; ComponentLink2Description: Datasheet Link; ComponentLink2URL: https://www.we-online.com/components/products/datasheet/691252700002; Mount: Through Hole; Operating Temperature Min: -30degC; Operating Temperature Max: 120degC; Packaging: Box; Application: Rising Cage Clamp; Number of Pins: 2; Number of Rows: 1; Orientation: Vertical; Lead Pitch: 5mm
footprint 691252700002
pins: 1, 2

## 691252700003
designator J?  (value not drawn)
WR-TBL Series 2527 Vertical Entry Modular, THT, pitch 5mm, 03p; Manufacturer: Wurth Elektronik; Modularity: Yes; Rated Current: 16A; Wire Section: 12 to 30 (AWG) 3.31 to 0.0509 (mm^2); Working Voltage: 300V (AC); Manufacturer Part Number: 691252700003; Product Series: WR-TBL; ComponentLink1Description: Website Link; ComponentLink1URL: https://www.we-online.com; ComponentLink2Description: Datasheet Link; ComponentLink2URL: https://www.we-online.com/components/products/datasheet/691252700003; Mount: Through Hole; Operating Temperature Min: -30degC; Operating Temperature Max: 120degC; Packaging: Box; Application: Rising Cage Clamp; Number of Pins: 3; Number of Rows: 1; Orientation: Vertical; Lead Pitch: 5mm
footprint 691252700003
pins: 1, 2, 3

## 691252710002
designator J?  (value not drawn)
WR-TBL Series 2527 Horizontal Entry Modular, THT, pitch 5mm, 02p; Manufacturer: Wurth Elektronik; Modularity: Yes; Rated Current: 16A; Wire Section: 12 to 30 (AWG) 3.31 to 0.0509 (mm^2); Working Voltage: 300V (AC); Manufacturer Part Number: 691252710002; Product Series: WR-TBL; ComponentLink1Description: Website Link; ComponentLink1URL: https://www.we-online.com; ComponentLink2Description: Datasheet Link; ComponentLink2URL: https://www.we-online.com/components/products/datasheet/691252710002; Mount: Through Hole; Operating Temperature Min: -30degC; Operating Temperature Max: 120degC; Packaging: Box; Application: Rising Cage Clamp; Number of Pins: 2; Number of Rows: 1; Orientation: Horizontal; Lead Pitch: 5mm
footprint 691252710002
pins: 1, 2

## 691252710003
designator J?  (value not drawn)
WR-TBL Series 2527 Horizontal Entry Modular, THT, pitch 5mm, 03p; Manufacturer: Wurth Elektronik; Modularity: Yes; Rated Current: 16A; Wire Section: 12 to 30 (AWG) 3.31 to 0.0509 (mm^2); Working Voltage: 300V (AC); Manufacturer Part Number: 691252710003; Product Series: WR-TBL; ComponentLink1Description: Website Link; ComponentLink1URL: https://www.we-online.com; ComponentLink2Description: Datasheet Link; ComponentLink2URL: https://www.we-online.com/components/products/datasheet/691252710003; Mount: Through Hole; Operating Temperature Min: -30degC; Operating Temperature Max: 120degC; Packaging: Box; Application: Rising Cage Clamp; Number of Pins: 3; Number of Rows: 1; Orientation: Horizontal; Lead Pitch: 5mm
footprint 691252710003
pins: 1, 2, 3

## 691252800001
designator J?  (value not drawn)
WR-TBL Series 2528 Vertical Entry Modular, THT, pitch 10mm, 01p; Manufacturer: Wurth Elektronik; Modularity: Yes; Rated Current: 16A; Wire Section: 12 to 30 (AWG) 3.31 to 0.05 (mm^2); Working Voltage: 300V (AC); Manufacturer Part Number: 691252800001; Product Series: WR-TBL; ComponentLink1Description: Website Link; ComponentLink1URL: https://www.we-online.com; ComponentLink2Description: Datasheet Link; ComponentLink2URL: https://www.we-online.com/components/products/datasheet/691252800001; Mount: Through Hole; Operating Temperature Min: -30degC; Operating Temperature Max: 120degC; Packaging: Box; Application: Rising Cage Clamp; Number of Pins: 1; Number of Rows: 1; Orientation: Vertical; Lead Pitch: 10mm
footprint 691252800001
pins: 1

## 691252800002
designator J?  (value not drawn)
WR-TBL Series 2528 Vertical Entry Modular, THT, pitch 10mm, 02p; Manufacturer: Wurth Elektronik; Modularity: Yes; Rated Current: 16A; Wire Section: 12 to 30 (AWG) 3.31 to 0.05 (mm^2); Working Voltage: 300V (AC); Manufacturer Part Number: 691252800002; Product Series: WR-TBL; ComponentLink1Description: Website Link; ComponentLink1URL: https://www.we-online.com; ComponentLink2Description: Datasheet Link; ComponentLink2URL: https://www.we-online.com/components/products/datasheet/691252800002; Mount: Through Hole; Operating Temperature Min: -30degC; Operating Temperature Max: 120degC; Packaging: Box; Application: Rising Cage Clamp; Number of Pins: 2; Number of Rows: 1; Orientation: Vertical; Lead Pitch: 10mm
footprint 691252800002
pins: 1, 2